# Altium schematic symbol library Electrolytics$.SchLib: 39 symbols
Pins are listed as number, name and electrical type; pins without a type are passive.

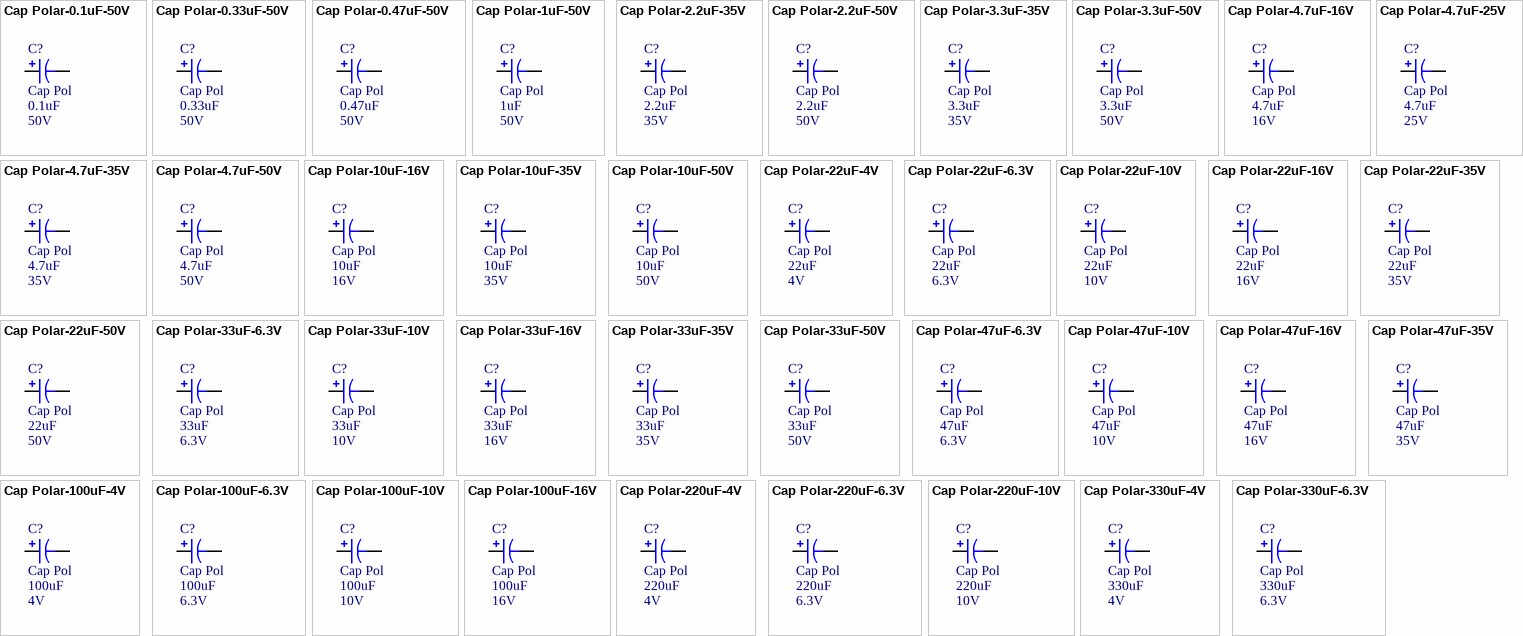
[diagram p0: symbols Cap Polar-0.1uF-50V to Cap Polar-330uF-6.3V]

## Cap Polar-0.1uF-50V
designator C?, comment Cap Pol  value 0.1uF  Voltage: 50V
CAP 85C 0.1uF ±20% 50V WX Series Aluminum Electrolytic; MPN: UWX1H0R1MCL2GB; Name: Cap Polar-0.1uF-50V; Tan Theta: 0.12; Leakage Current: 3; Rated Ripple Current: 1; PN: 493-2121-1-ND; Diameter: 3; URL: http://www.digikey.ca/product-detail/en/UWX1H0R1MCL2GB/493-2121-1-ND
footprint CAPACITOR_3MM
pins: 1, 2
1 alternate drawing of the same symbol

## Cap Polar-0.33uF-50V
designator C?, comment Cap Pol  value 0.33uF  Voltage: 50V
CAP 85C 0.33uF ±20% 50V WX Series Aluminum Electrolytic; MPN: UWX1HR33MCL2GB; Name: Cap Polar-0.33uF-50V; Tan Theta: 0.12; Leakage Current: 3; Rated Ripple Current: 2.8; PN: 493-2125-1-ND; Diameter: 3; URL: http://www.digikey.ca/product-detail/en/UWX1HR33MCL2GB/493-2125-1-ND
footprint CAPACITOR_3MM
pins: 1, 2
1 alternate drawing of the same symbol

## Cap Polar-0.47uF-50V
designator C?, comment Cap Pol  value 0.47uF  Voltage: 50V
CAP 85C 0.47uF ±20% 50V WX Series Aluminum Electrolytic; MPN: UWX1HR47MCL2GB; Name: Cap Polar-0.47uF-50V; Tan Theta: 0.12; Leakage Current: 3; Rated Ripple Current: 4; PN: 493-2127-1-ND; Diameter: 3; URL: http://www.digikey.ca/product-detail/en/UWX1HR47MCL2GB/493-2127-1-ND
footprint CAPACITOR_3MM
pins: 1, 2
1 alternate drawing of the same symbol

## Cap Polar-1uF-50V
designator C?, comment Cap Pol  value 1uF  Voltage: 50V
CAP 85C 1uF ±20% 50V WX Series Aluminum Electrolytic; MPN: UWX1H010MCL2GB; Name: Cap Polar-1uF-50V; Tan Theta: 0.12; Leakage Current: 3; Rated Ripple Current: 8; PN: 493-2129-1-ND; Diameter: 3; URL: http://www.digikey.ca/product-detail/en/UWX1H010MCL2GB/493-2129-1-ND
footprint CAPACITOR_3MM
pins: 1, 2
1 alternate drawing of the same symbol

## Cap Polar-2.2uF-35V
designator C?, comment Cap Pol  value 2.2uF  Voltage: 35V
CAP 85C 2.2uF ±20% 35V WX Series Aluminum Electrolytic; MPN: UWX1V2R2MCL2GB; Name: Cap Polar-2.2uF-35V; Tan Theta: 0.12; Leakage Current: 3; Rated Ripple Current: 8.4; PN: 493-2114-1-ND; Diameter: 3; URL: http://www.digikey.ca/product-detail/en/UWX1V2R2MCL2GB/493-2114-1-ND
footprint CAPACITOR_3MM
pins: 1, 2
1 alternate drawing of the same symbol

## Cap Polar-2.2uF-50V
designator C?, comment Cap Pol  value 2.2uF  Voltage: 50V
CAP 85C 2.2uF ±20% 50V WX Series Aluminum Electrolytic; MPN: UWX1H2R2MCL2GB; Name: Cap Polar-2.2uF-50V; Tan Theta: 0.12; Leakage Current: 3; Rated Ripple Current: 10; PN: 493-2131-1-ND; Diameter: 3; URL: http://www.digikey.ca/product-detail/en/UWX1H2R2MCL2GB/493-2131-1-ND
footprint CAPACITOR_3MM
pins: 1, 2
1 alternate drawing of the same symbol

## Cap Polar-3.3uF-35V
designator C?, comment Cap Pol  value 3.3uF  Voltage: 35V
CAP 85C 3.3uF ±20% 35V WX Series Aluminum Electrolytic; MPN: UWX1V3R3MCL2GB; Name: Cap Polar-3.3uF-35V; Tan Theta: 0.12; Leakage Current: 3; Rated Ripple Current: 10; PN: 493-2115-1-ND; Diameter: 3; URL: http://www.digikey.ca/product-detail/en/UWX1V3R3MCL2GB/493-2115-1-ND
footprint CAPACITOR_3MM
pins: 1, 2
1 alternate drawing of the same symbol

## Cap Polar-3.3uF-50V
designator C?, comment Cap Pol  value 3.3uF  Voltage: 50V
CAP 85C 3.3uF ±20% 50V WX Series Aluminum Electrolytic; MPN: UWX1H3R3MCL1GB; Name: Cap Polar-3.3uF-50V; Tan Theta: 0.12; Leakage Current: 3; Rated Ripple Current: 17; PN: 493-2133-1-ND; Diameter: 4; URL: http://www.digikey.ca/product-detail/en/UWX1H3R3MCL1GB/493-2133-1-ND
footprint CAPACITOR_4MM
pins: 1, 2
1 alternate drawing of the same symbol

## Cap Polar-4.7uF-16V
designator C?, comment Cap Pol  value 4.7uF  Voltage: 16V
CAP 85C 4.7uF ±20% 16V WX Series Aluminum Electrolytic; MPN: UWX1E4R7MCL1GB; Name: Cap Polar-4.7uF-16V; Tan Theta: 0.14; Leakage Current: 3; Rated Ripple Current: 16; PN: 493-2107-1-ND; Diameter: 4; URL: http://www.digikey.ca/product-detail/en/UWX1E4R7MCL1GB/493-2107-1-ND
footprint CAPACITOR_4MM
pins: 1, 2
1 alternate drawing of the same symbol

## Cap Polar-4.7uF-25V
designator C?, comment Cap Pol  value 4.7uF  Voltage: 25V
CAP 85C 4.7uF ±20% 25V WX Series Aluminum Electrolytic; MPN: UWX1E4R7MCL2GB; Name: Cap Polar-4.7uF-25V; Tan Theta: 0.14; Leakage Current: 3; Rated Ripple Current: 12; PN: 493-2106-1-ND; Diameter: 3; URL: http://www.digikey.ca/product-detail/en/UWX1E4R7MCL2GB/493-2106-1-ND
footprint CAPACITOR_3MM
pins: 1, 2
1 alternate drawing of the same symbol

## Cap Polar-4.7uF-35V
designator C?, comment Cap Pol  value 4.7uF  Voltage: 35V
CAP 85C 4.7uF ±20% 35V WX Series Aluminum Electrolytic; MPN: UWX1V4R7MCL1GB; Name: Cap Polar-4.7uF-35V; Tan Theta: 0.12; Leakage Current: 3; Rated Ripple Current: 18; PN: 493-2116-1-ND; Diameter: 4; URL: http://www.digikey.ca/product-detail/en/UWX1V4R7MCL1GB/493-2116-1-ND
footprint CAPACITOR_4MM
pins: 1, 2
1 alternate drawing of the same symbol

## Cap Polar-4.7uF-50V
designator C?, comment Cap Pol  value 4.7uF  Voltage: 50V
CAP 85C 4.7uF ±20% 50V WX Series Aluminum Electrolytic; MPN: UWX1H4R7MCL1GB; Name: Cap Polar-4.7uF-50V; Tan Theta: 0.12; Leakage Current: 3; Rated Ripple Current: 20; PN: 493-2134-1-ND; Diameter: 5; URL: http://www.digikey.ca/product-detail/en/UWX1H4R7MCL1GB/493-2134-1-ND
footprint CAPACITOR_5MM
pins: 1, 2
1 alternate drawing of the same symbol

## Cap Polar-10uF-16V
designator C?, comment Cap Pol  value 10uF  Voltage: 16V
CAP 85C 10uF ±20% 16V WX Series Aluminum Electrolytic; MPN: UWX1C100MCL2GB; Name: Cap Polar-10uF-16V; Tan Theta: 0.16; Leakage Current: 3; Rated Ripple Current: 18; PN: 493-2099-1-ND; Diameter: 3; URL: http://www.digikey.ca/product-detail/en/UWX1C100MCL2GB/493-2099-1-ND
footprint CAPACITOR_3MM
pins: 1, 2
1 alternate drawing of the same symbol

## Cap Polar-10uF-35V
designator C?, comment Cap Pol  value 10uF  Voltage: 35V
CAP 85C 10uF ±20% 35V WX Series Aluminum Electrolytic; MPN: UWX1V100MCL1GB; Name: Cap Polar-10uF-35V; Tan Theta: 0.12; Leakage Current: 3.5; Rated Ripple Current: 29; PN: 493-2117-1-ND; Diameter: 5; URL: http://www.digikey.ca/product-detail/en/UWX1V100MCL1GB/493-2117-1-ND
footprint CAPACITOR_5MM
pins: 1, 2
1 alternate drawing of the same symbol

## Cap Polar-10uF-50V
designator C?, comment Cap Pol  value 10uF  Voltage: 50V
CAP 85C 10uF ±20% 50V WX Series Aluminum Electrolytic; MPN: UWX1H100MCL1GB; Name: Cap Polar-10uF-50V; Tan Theta: 0.12; Leakage Current: 5; Rated Ripple Current: 33; PN: 493-2135-1-ND; Diameter: 6.3; URL: http://www.digikey.ca/product-detail/en/UWX1H100MCL1GB/493-2135-1-ND
footprint CAPACITOR_6.3MM
pins: 1, 2
1 alternate drawing of the same symbol

## Cap Polar-22uF-4V
designator C?, comment Cap Pol  value 22uF  Voltage: 4V
CAP 85C 22uF ±20% 4V WX Series Aluminum Electrolytic; MPN: UWX0G220MCL2GB; Name: Cap Polar-22uF-4V; Tan Theta: 0.35; Leakage Current: 3; Rated Ripple Current: 19; PN: 493-2075-1-ND; Diameter: 3; URL: http://www.digikey.ca/product-detail/en/UWX0G220MCL2GB/493-2075-1-ND
footprint CAPACITOR_3MM
pins: 1, 2
1 alternate drawing of the same symbol

## Cap Polar-22uF-6.3V
designator C?, comment Cap Pol  value 22uF  Voltage: 6.3V
CAP 85C 22uF ±20% 6.3V WX Series Aluminum Electrolytic; MPN: UWX0J220MCL2GB; Name: Cap Polar-22uF-6.3V; Tan Theta: 0.26; Leakage Current: 3; Rated Ripple Current: 21; PN: 493-2083-1-ND; Diameter: 3; URL: http://www.digikey.ca/product-detail/en/UWX0J220MCL2GB/493-2083-1-ND
footprint CAPACITOR_3MM
pins: 1, 2
1 alternate drawing of the same symbol

## Cap Polar-22uF-10V
designator C?, comment Cap Pol  value 22uF  Voltage: 10V
CAP 85C 22uF ±20% 10V WX Series Aluminum Electrolytic; MPN: UWX1A220MCL1GB; Name: Cap Polar-22uF-10V; Tan Theta: 0.2; Leakage Current: 3; Rated Ripple Current: 33; PN: 493-2092-1-ND; Diameter: 5; URL: http://www.digikey.ca/product-detail/en/UWX1A220MCL1GB/493-2092-1-ND
footprint CAPACITOR_5MM
pins: 1, 2
1 alternate drawing of the same symbol

## Cap Polar-22uF-16V
designator C?, comment Cap Pol  value 22uF  Voltage: 16V
CAP 85C 22uF ±20% 16V WX Series Aluminum Electrolytic; MPN: UWX1C220MCL1GB; Name: Cap Polar-22uF-16V; Tan Theta: 0.16; Leakage Current: 3.52; Rated Ripple Current: 37; PN: 493-2101-1-ND; Diameter: 5; URL: http://www.digikey.ca/product-detail/en/UWX1C220MCL1GB/493-2101-1-ND
footprint CAPACITOR_5MM
pins: 1, 2
1 alternate drawing of the same symbol

## Cap Polar-22uF-35V
designator C?, comment Cap Pol  value 22uF  Voltage: 35V
CAP 85C 22uF ±20% 35V WX Series Aluminum Electrolytic; MPN: UWX1V220MCL1GB; Name: Cap Polar-22uF-35V; Tan Theta: 0.12; Leakage Current: 7.7; Rated Ripple Current: 46; PN: 493-2118-1-ND; Diameter: 6.3; URL: http://www.digikey.ca/product-detail/en/UWX1V220MCL1GB/493-2118-1-ND
footprint CAPACITOR_6.3MM
pins: 1, 2
1 alternate drawing of the same symbol

## Cap Polar-22uF-50V
designator C?, comment Cap Pol  value 22uF  Voltage: 50V
CAP 85C 22uF ±20% 50V WX Series Aluminum Electrolytic; MPN: UWX1H220MCL1GB; Name: Cap Polar-22uF-50V; Tan Theta: 0.12; Leakage Current: 11; Rated Ripple Current: 52; PN: 493-2136-1-ND; Diameter: 8; URL: http://www.digikey.ca/product-detail/en/UWX1H220MCL1GB/493-2136-1-ND
footprint CAPACITOR_8MM
pins: 1, 2
1 alternate drawing of the same symbol

## Cap Polar-33uF-6.3V
designator C?, comment Cap Pol  value 33uF  Voltage: 6.3V
CAP 85C 33uF ±20% 6.3V WX Series Aluminum Electrolytic; MPN: UWX0J330MCL1GB; Name: Cap Polar-33uF-6.3V; Tan Theta: 0.26; Leakage Current: 3; Rated Ripple Current: 37; PN: 493-2085-1-ND; Diameter: 5; URL: http://www.digikey.ca/product-detail/en/UWX0J330MCL1GB/493-2085-1-ND
footprint CAPACITOR_5MM
pins: 1, 2
1 alternate drawing of the same symbol

## Cap Polar-33uF-10V
designator C?, comment Cap Pol  value 33uF  Voltage: 10V
CAP 85C 33uF ±20% 10V WX Series Aluminum Electrolytic; MPN: UWX1A330MCL1GB; Name: Cap Polar-33uF-10V; Tan Theta: 0.2; Leakage Current: 3.3; Rated Ripple Current: 41; PN: 493-2093-1-ND; Diameter: 5; URL: http://www.digikey.ca/product-detail/en/UWX1A330MCL1GB/493-2093-1-ND
footprint CAPACITOR_5MM
pins: 1, 2
1 alternate drawing of the same symbol

## Cap Polar-33uF-16V
designator C?, comment Cap Pol  value 33uF  Voltage: 16V
CAP 85C 33uF ±20% 16V WX Series Aluminum Electrolytic; MPN: UWX1C330MCL1GB; Name: Cap Polar-33uF-16V; Tan Theta: 0.16; Leakage Current: 5.28; Rated Ripple Current: 49; PN: 493-2102-1-ND; Diameter: 6.3; URL: http://www.digikey.ca/product-detail/en/UWX1C330MCL1GB/493-2102-1-ND
footprint CAPACITOR_6.3MM
pins: 1, 2
1 alternate drawing of the same symbol

## Cap Polar-33uF-35V
designator C?, comment Cap Pol  value 33uF  Voltage: 35V
CAP 85C 33uF ±20% 35V WX Series Aluminum Electrolytic; MPN: UWX1V330MCL1GB; Name: Cap Polar-33uF-35V; Tan Theta: 0.12; Leakage Current: 11.55; Rated Ripple Current: 62; PN: 493-2119-1-ND; Diameter: 8; URL: http://www.digikey.ca/product-detail/en/UWX1V330MCL1GB/493-2119-1-ND
footprint CAPACITOR_8MM
pins: 1, 2
1 alternate drawing of the same symbol

## Cap Polar-33uF-50V
designator C?, comment Cap Pol  value 33uF  Voltage: 50V
CAP 85C 33uF ±20% 50V WX Series Aluminum Electrolytic; MPN: UWX1H330MCL1GB; Name: Cap Polar-33uF-50V; Tan Theta: 0.12; Leakage Current: 16.5; Rated Ripple Current: 71; PN: 493-2137-1-ND; Diameter: 8; URL: http://www.digikey.ca/product-detail/en/UWX1H330MCL1GB/493-2137-1-ND
footprint CAPACITOR_8MM
pins: 1, 2
1 alternate drawing of the same symbol

## Cap Polar-47uF-6.3V
designator C?, comment Cap Pol  value 47uF  Voltage: 6.3V
CAP 85C 47uF ±20% 6.3V WX Series Aluminum Electrolytic; MPN: UWX0J470MCL1GB; Name: Cap Polar-47uF-6.3V; Tan Theta: 0.26; Leakage Current: 3; Rated Ripple Current: 45; PN: 493-2086-1-ND; Diameter: 5; URL: http://www.digikey.ca/product-detail/en/UWX0J470MCL1GB/493-2086-1-ND
footprint CAPACITOR_5MM
pins: 1, 2
1 alternate drawing of the same symbol

## Cap Polar-47uF-10V
designator C?, comment Cap Pol  value 47uF  Voltage: 10V
CAP 85C 47uF ±20% 10V WX Series Aluminum Electrolytic; MPN: UWX1A470MCL1GB; Name: Cap Polar-47uF-10V; Tan Theta: 0.2; Leakage Current: 4.7; Rated Ripple Current: 52; PN: 493-2094-1-ND; Diameter: 6.3; URL: http://www.digikey.ca/product-detail/en/UWX1A470MCL1GB/493-2094-1-ND
footprint CAPACITOR_6.3MM
pins: 1, 2
1 alternate drawing of the same symbol

## Cap Polar-47uF-16V
designator C?, comment Cap Pol  value 47uF  Voltage: 16V
CAP 85C 47uF ±20% 16V WX Series Aluminum Electrolytic; MPN: UWX1C470MCL1GB; Name: Cap Polar-47uF-16V; Tan Theta: 0.16; Leakage Current: 7.52; Rated Ripple Current: 58; PN: 493-2103-1-ND; Diameter: 6.3; URL: http://www.digikey.ca/product-detail/en/UWX1C470MCL1GB/493-2103-1-ND
footprint CAPACITOR_6.3MM
pins: 1, 2
1 alternate drawing of the same symbol

## Cap Polar-47uF-35V
designator C?, comment Cap Pol  value 47uF  Voltage: 35V
CAP 85C 47uF ±20% 35V WX Series Aluminum Electrolytic; MPN: UWX1V470MCL1GB; Name: Cap Polar-47uF-35V; Tan Theta: 0.12; Leakage Current: 16.45; Rated Ripple Current: 80; PN: 493-2120-1-ND; Diameter: 8; URL: http://www.digikey.ca/product-detail/en/UWX1V470MCL1GB/493-2120-1-ND
footprint CAPACITOR_8MM
pins: 1, 2
1 alternate drawing of the same symbol

## Cap Polar-100uF-4V
designator C?, comment Cap Pol  value 100uF  Voltage: 4V
CAP 85C 100uF ±20% 4V WX Series Aluminum Electrolytic; MPN: UWX0G101MCL1GB; Name: Cap Polar-100uF-4V; Tan Theta: 0.35; Leakage Current: 4; Rated Ripple Current: 56; PN: 493-2079-1-ND; Diameter: 5; URL: http://www.digikey.ca/product-detail/en/UWX0G101MCL1GB/493-2079-1-ND
footprint CAPACITOR_5MM
pins: 1, 2
1 alternate drawing of the same symbol

## Cap Polar-100uF-6.3V
designator C?, comment Cap Pol  value 100uF  Voltage: 6.3V
CAP 85C 100uF ±20% 6.3V WX Series Aluminum Electrolytic; MPN: UWX0J101MCL1GB; Name: Cap Polar-100uF-6.3V; Tan Theta: 0.26; Leakage Current: 6.3; Rated Ripple Current: 70; PN: 493-2088-1-ND; Diameter: 6.3; URL: http://www.digikey.ca/product-detail/en/UWX0J101MCL1GB/493-2088-1-ND
footprint CAPACITOR_6.3MM
pins: 1, 2
1 alternate drawing of the same symbol

## Cap Polar-100uF-10V
designator C?, comment Cap Pol  value 100uF  Voltage: 10V
CAP 85C 100uF ±20% 10V WX Series Aluminum Electrolytic; MPN: UWX1A101MCL1GB; Name: Cap Polar-100uF-10V; Tan Theta: 0.2; Leakage Current: 10; Rated Ripple Current: 76; PN: 493-2096-1-ND; Diameter: 6.3; URL: http://www.digikey.ca/product-detail/en/UWX1A101MCL1GB/493-2096-1-ND
footprint CAPACITOR_6.3MM
pins: 1, 2
1 alternate drawing of the same symbol

## Cap Polar-100uF-16V
designator C?, comment Cap Pol  value 100uF  Voltage: 16V
CAP 85C 100uF ±20% 16V WX Series Aluminum Electrolytic; MPN: UWX1C101MCL1GB; Name: Cap Polar-100uF-16V; Tan Theta: 0.16; Leakage Current: 16; Rated Ripple Current: 86; PN: 493-2105-1-ND; Diameter: 6.3; URL: http://www.digikey.ca/product-detail/en/UWX1C101MCL1GB/493-2105-1-ND
footprint CAPACITOR_6.3MM
pins: 1, 2
1 alternate drawing of the same symbol

## Cap Polar-220uF-4V
designator C?, comment Cap Pol  value 220uF  Voltage: 4V
CAP 85C 220uF ±20% 4V WX Series Aluminum Electrolytic; MPN: UWX0G221MCL1GB; Name: Cap Polar-220uF-4V; Tan Theta: 0.35; Leakage Current: 8.8; Rated Ripple Current: 96; PN: 493-2081-1-ND; Diameter: 6.3; URL: http://www.digikey.ca/product-detail/en/UWX0G221MCL1GB/493-2081-1-ND
footprint CAPACITOR_6.3MM
pins: 1, 2
1 alternate drawing of the same symbol

## Cap Polar-220uF-6.3V
designator C?, comment Cap Pol  value 220uF  Voltage: 6.3V
CAP 85C 220uF ±20% 6.3V WX Series Aluminum Electrolytic; MPN: UWX0J221MCL1GB; Name: Cap Polar-220uF-6.3V; Tan Theta: 0.26; Leakage Current: 13.86; Rated Ripple Current: 110; PN: 493-2090-1-ND; Diameter: 8; URL: http://www.digikey.ca/product-detail/en/UWX0J221MCL1GB/493-2090-1-ND
footprint CAPACITOR_8MM
pins: 1, 2
1 alternate drawing of the same symbol

## Cap Polar-220uF-10V
designator C?, comment Cap Pol  value 220uF  Voltage: 10V
CAP 85C 220uF ±20% 10V WX Series Aluminum Electrolytic; MPN: UWX1A221MCL1GB; Name: Cap Polar-220uF-10V; Tan Theta: 0.2; Leakage Current: 22; Rated Ripple Current: 135; PN: 493-2098-1-ND; Diameter: 8; URL: http://www.digikey.ca/product-detail/en/UWX1A221MCL1GB/493-2098-1-ND
footprint CAPACITOR_8MM
pins: 1, 2
1 alternate drawing of the same symbol

## Cap Polar-330uF-4V
designator C?, comment Cap Pol  value 330uF  Voltage: 4V
CAP 85C 330uF ±20% 4V WX Series Aluminum Electrolytic; MPN: UWX0G331MCL1GB; Name: Cap Polar-330uF-4V; Tan Theta: 0.35; Leakage Current: 13.2; Rated Ripple Current: 145; PN: 493-2082-1-ND; Diameter: 8; URL: http://www.digikey.ca/product-detail/en/UWX0G331MCL1GB/493-2082-1-ND
footprint CAPACITOR_8MM
pins: 1, 2
1 alternate drawing of the same symbol

## Cap Polar-330uF-6.3V
designator C?, comment Cap Pol  value 330uF  Voltage: 6.3V
CAP 85C 330uF ±20% 6.3V WX Series Aluminum Electrolytic; MPN: UWX0J331MCL1GB; Name: Cap Polar-330uF-6.3V; Tan Theta: 0.26; Leakage Current: 20.79; Rated Ripple Current: 170; PN: 493-2091-1-ND; Diameter: 8; URL: http://www.digikey.ca/product-detail/en/UWX0J331MCL1GB/493-2091-1-ND
footprint CAPACITOR_8MM
pins: 1, 2
1 alternate drawing of the same symbol